# Altium footprint library Аналоговые-mm.PcbLib: 44 footprints (part 3 of 3)
Each footprint in its own frame and in the unit in brackets; x right, y up, seen from the top. Pads: shape width x height; smd on the part's side, far side on the other; paste and mask are expansions set on the pad; w line width, h text height; cw(c..) or ccw(c..) is an arc to the next point about the centre after c.
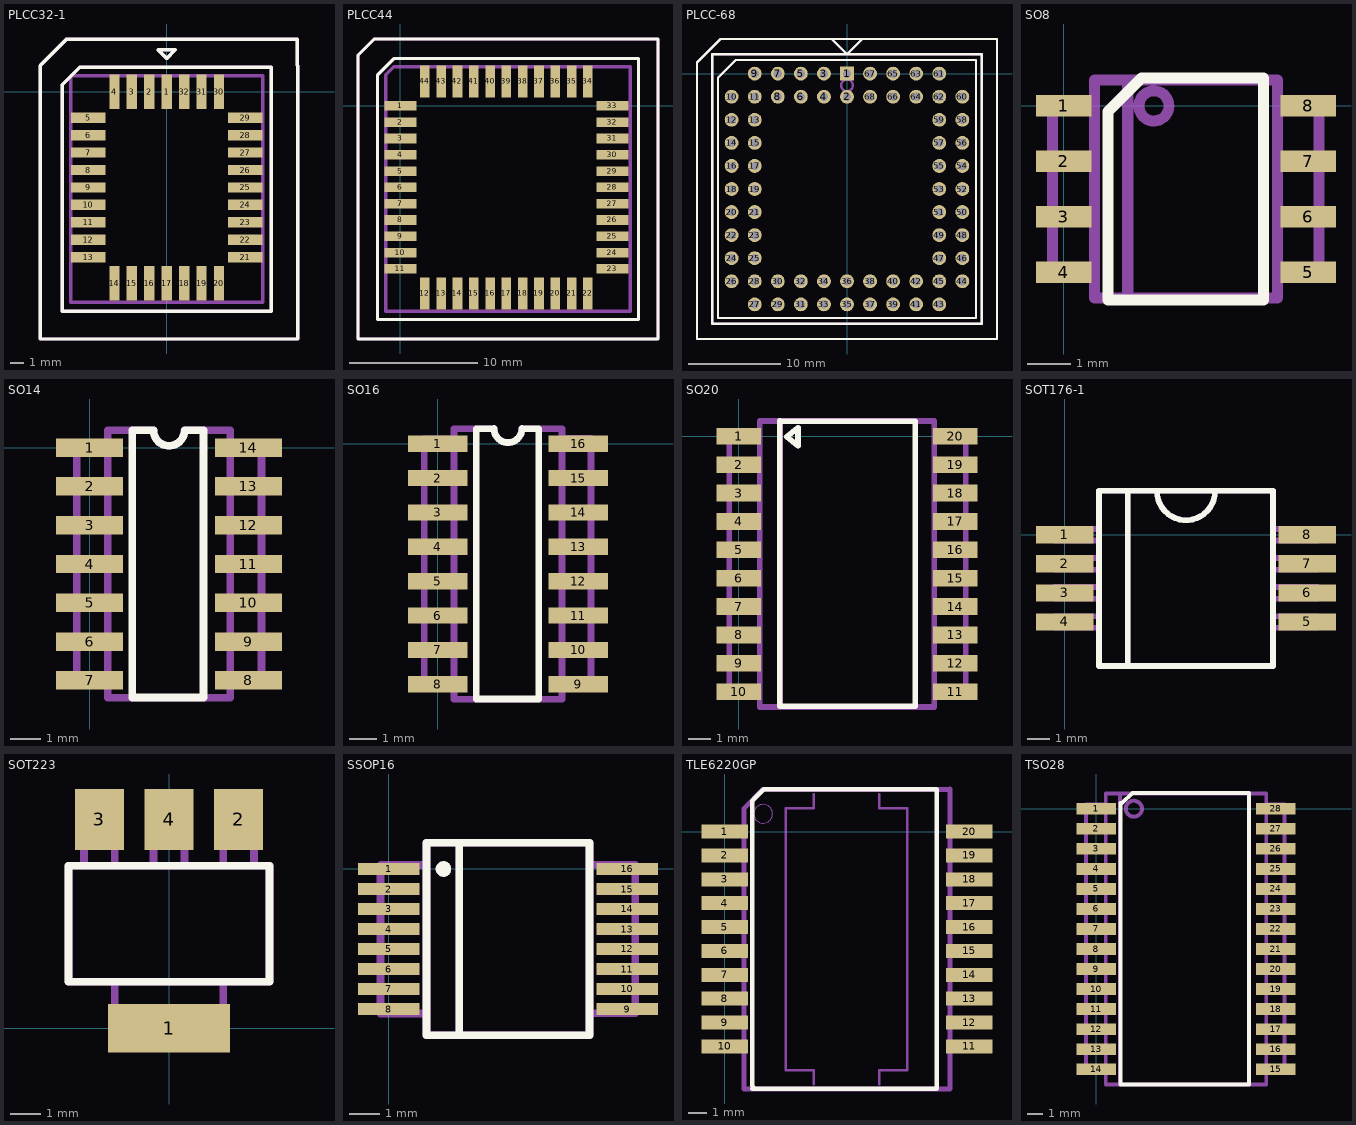
[diagram p2: the footprints below, top view; thin cyan lines are the x and y axes]

## PLCC32-1 [mm]
pads (32):
  rect 0.75x2.5 smd: 1(0,0) 2(-1.27,0) 3(-2.54,0) 4(-3.81,0) 14(-3.81,-13.97) 15(-2.54,-13.97) 16(-1.27,-13.97) 17(0,-13.97) 18(1.27,-13.97) 19(2.54,-13.97) 20(3.81,-13.97) 30(3.81,0) 31(2.54,0) 32(1.27,0)
  rect 2.5x0.75 smd: 5(-5.715,-1.905) 6(-5.715,-3.175) 7(-5.715,-4.445) 8(-5.715,-5.715) 9(-5.715,-6.985) 10(-5.715,-8.255) 11(-5.715,-9.525) 12(-5.715,-10.795) 13(-5.715,-12.065) 21(5.715,-12.065) 22(5.715,-10.795) 23(5.715,-9.525) 24(5.715,-8.255) 25(5.715,-6.985) 26(5.715,-5.715) 27(5.715,-4.445) 28(5.715,-3.175) 29(5.715,-1.905)
Top Overlay:
  lines w0.25: -9.22,-16.129 -9.22,-18.034 -7.01,-18.034 ; -9.22,1.905 -7.29,3.835 ; -9.207,-16.129 -9.207,1.905 ; -7.302,-18.034 7.302,-18.034 ; -7.302,3.81 7.302,3.81 ; 7.239,3.81 9.525,3.81 9.525,1.905 ; 7.29,-18.034 9.55,-18.034 9.55,-16.053 ; 9.538,-16.154 9.538,1.88 ; -7.62,-16.002 7.62,-16.002 7.62,1.778 -6.35,1.778 -7.62,0.508 -7.62,-16.002 ; -0.635,3.048 0.635,3.048 0,2.413 -0.635,3.048
Mechanical 1:
  lines w0.25: -9.22,-16.129 -9.22,-18.034 -7.01,-18.034 ; -9.22,1.905 -7.29,3.835 ; -9.207,-16.129 -9.207,1.905 ; -7.302,-18.034 7.302,-18.034 ; -7.302,3.81 7.302,3.81 ; 7.239,3.81 9.525,3.81 9.525,1.905 ; 7.29,-18.034 9.55,-18.034 9.55,-16.053 ; 9.538,-16.154 9.538,1.88 ; -7.62,-16.002 7.62,-16.002 7.62,1.778 -6.35,1.778 -7.62,0.508 -7.62,-16.002 ; -6.985,-15.367 6.985,-15.367 6.985,1.143 -6.985,1.143 -6.985,-15.367 ; -0.635,3.048 0.635,3.048 0,2.413 -0.635,3.048

## PLCC44 [mm]
pads (44):
  rect 2.5x0.75 smd: 1(0,0) 2(0,-1.27) 3(0,-2.54) 4(0,-3.81) 5(0,-5.08) 6(0,-6.35) 7(0,-7.62) 8(0,-8.89) 9(0,-10.16) 10(0,-11.43) 11(0,-12.7) 23(16.51,-12.7) 24(16.51,-11.43) 25(16.51,-10.16) 26(16.51,-8.89) 27(16.51,-7.62) 28(16.51,-6.35) 29(16.51,-5.08) 30(16.51,-3.81) 31(16.51,-2.54) 32(16.51,-1.27) 33(16.51,0)
  rect 0.75x2.5 smd: 12(1.905,-14.605) 13(3.175,-14.605) 14(4.445,-14.605) 15(5.715,-14.605) 16(6.985,-14.605) 17(8.255,-14.605) 18(9.525,-14.605) 19(10.795,-14.605) 20(12.065,-14.605) 21(13.335,-14.605) 22(14.605,-14.605) 34(14.605,1.905) 35(13.335,1.905) 36(12.065,1.905) 37(10.795,1.905) 38(9.525,1.905) 39(8.255,1.905) 40(6.985,1.905) 41(5.715,1.905) 42(4.445,1.905) 43(3.175,1.905) 44(1.905,1.905)
Top Overlay:
  lines w0.25: -3.302,-18.161 20.066,-18.161 20.066,5.207 -2.032,5.207 -3.302,3.937 -3.302,-18.161 ; -1.778,-16.637 18.542,-16.637 18.542,3.683 -0.508,3.683 -1.778,2.413 -1.778,-16.637
Mechanical 1:
  lines w0.25: -3.302,-18.161 20.066,-18.161 20.066,5.207 -2.032,5.207 -3.302,3.937 -3.302,-18.161 ; -1.778,-16.637 18.542,-16.637 18.542,3.683 -0.508,3.683 -1.778,2.413 -1.778,-16.637 ; -1.143,-16.002 17.907,-16.002 17.907,3.048 -0.508,3.048 -1.143,2.413 -1.143,-16.002

## PLCC-68 [mm]
pads (68):
  rect 1.5x1.5 hole 0.9: 1(0,0)
  round 1.5 hole 0.9: 2(0,-2.5) 3(-2.5,0) 4(-2.5,-2.5) 5(-5,0) 6(-5,-2.5) 7(-7.5,0) 8(-7.5,-2.5) 9(-10,0) 10(-12.5,-2.5) 11(-10,-2.5) 12(-12.5,-5) 13(-10,-5) 14(-12.5,-7.5) 15(-10,-7.5) 16(-12.5,-10) 17(-10,-10) 18(-12.5,-12.5) 19(-10,-12.5) 20(-12.5,-15) 21(-10,-15) 22(-12.5,-17.5) 23(-10,-17.5) 24(-12.5,-20) 25(-10,-20) 26(-12.5,-22.5) 27(-10,-25) 28(-10,-22.5) 29(-7.5,-25) 30(-7.5,-22.5) 31(-5,-25) 32(-5,-22.5) 33(-2.5,-25) 34(-2.5,-22.5) 35(0,-25) 36(0,-22.5) 37(2.5,-25) 38(2.5,-22.5) 39(5,-25) 40(5,-22.5) 41(7.5,-25) 42(7.5,-22.5) 43(10,-25) 44(12.5,-22.5) 45(10,-22.5) 46(12.5,-20) 47(10,-20) 48(12.5,-17.5) 49(10,-17.5) 50(12.5,-15) 51(10,-15) 52(12.5,-12.5) 53(10,-12.5) 54(12.5,-10) 55(10,-10) 56(12.5,-7.5) 57(10,-7.5) 58(12.5,-5) 59(10,-5) 60(12.5,-2.5) 61(10,0) 62(10,-2.5) 63(7.5,0) 64(7.5,-2.5) 65(5,0) 66(5,-2.5) 67(2.5,0) 68(2.5,-2.5)
Top Overlay:
  lines w0.25: -1.651,3.756 0,2.105 1.651,3.756 ; -16.256,-28.756 -2.032,-28.756 16.256,-28.756 16.256,3.756 -13.716,3.756 -16.256,1.216 -16.256,-28.756 ; -14.605,-27.105 14.605,-27.105 14.605,2.105 -14.605,2.105 -14.605,-27.105 ; -13.97,-26.47 13.97,-26.47 13.97,1.47 -12.065,1.47 -13.97,-0.435 -13.97,-26.47
Mechanical 1:
  circle w0.25: c0,-1.27 r0.635
  lines w0.25: -1.651,3.756 0,2.105 1.651,3.756 ; -16.256,-28.756 -2.032,-28.756 16.256,-28.756 16.256,3.756 -13.716,3.756 -16.256,1.216 -16.256,-28.756 ; -14.605,-27.105 14.605,-27.105 14.605,2.105 -14.605,2.105 -14.605,-27.105 ; -13.97,-26.47 13.97,-26.47 13.97,1.47 -12.065,1.47 -13.97,-0.435 -13.97,-26.47

## SO8 [mm]
pads (8):
  rect 1.27x0.5 smd: 1(0,0) 2(0,-1.27) 3(0,-2.54) 4(0,-3.81) 5(5.6,-3.81) 6(5.6,-2.54) 7(5.6,-1.27) 8(5.6,0)
Top Overlay:
  lines w0.25: 1.016,-4.445 4.572,-4.445 4.572,0.635 1.778,0.635 1.016,-0.127 1.016,-4.445
Mechanical 1:
  circle w0.25: c2.065,-0.003 r0.344
  circle w0.25: c2.065,-0.003 r0.344
  lines w0.25: 0.635,-3.937 -0.254,-3.937 -0.254,0.127 -0.127,0.127 0.635,0.127 ; 4.953,-3.937 5.842,-3.937 5.842,0.127 4.953,0.127
  lines w0.254: 0.7,-4.405 4.9,-4.405 ; 0.7,-4.405 4.9,-4.405 ; 0.7,-4.405 0.7,0.595 ; 0.7,-4.405 0.7,0.595 ; 0.7,0.595 2.292,0.595 0.7,0.595 ; 4.9,-4.405 4.9,0.595 ; 4.9,-4.405 4.9,0.595 ; 4.9,0.595 2.189,0.596 4.9,0.595 ; 1.466,-4.407 1.466,0.572 1.466,-4.407

## SO14 [mm]
pads (14):
  rect 2.2x0.6 smd: 1(0,0) 2(0,-1.27) 3(0,-2.54) 4(0,-3.81) 5(0,-5.08) 6(0,-6.35) 7(0,-7.62) 8(5.2,-7.62) 9(5.2,-6.35) 10(5.2,-5.08) 11(5.2,-3.81) 12(5.2,-2.54) 13(5.2,-1.27) 14(5.2,0)
Top Overlay:
  lines w0.25: 1.395,-8.18 3.73,-8.18 3.73,0.565 3.11,0.565 cw(c2.602,0.565) 2.095,0.565 1.395,0.565 1.395,0.52 1.395,-8.18
Mechanical 1:
  lines w0.25: 0.595,-7.755 -0.425,-7.755 -0.425,0.11 -0.425,0.135 0.595,0.135 ; 4.61,-7.745 5.63,-7.745 5.63,0.12 5.63,0.145 4.61,0.145 ; 0.6,-8.185 4.6,-8.185 4.6,0.565 3.108,0.565 cw(c2.6,0.565) 2.092,0.565 0.6,0.565 0.6,-8.185

## SO16 [mm]
pads (16):
  rect 2.2x0.6 smd: 1(0,0) 2(0,-1.27) 3(0,-2.54) 4(0,-3.81) 5(0,-5.08) 6(0,-6.35) 7(0,-7.62) 8(0,-8.89) 9(5.2,-8.89) 10(5.2,-7.62) 11(5.2,-6.35) 12(5.2,-5.08) 13(5.2,-3.81) 14(5.2,-2.54) 15(5.2,-1.27) 16(5.2,0)
Top Overlay:
  lines w0.25: 2.075,0.555 1.43,0.555 1.43,0.515 1.43,-9.44 3.74,-9.44 3.74,0.555 3.12,0.555 ; 2.08,0.56 ccw(c2.598,0.56) 3.115,0.56
Mechanical 1:
  lines w0.25: 0.575,-8.97 -0.495,-8.97 -0.495,0.135 -0.495,0.185 0.575,0.185 ; 4.595,-8.96 5.665,-8.96 5.665,0.145 5.665,0.195 4.595,0.195 ; 0.6,-9.445 4.6,-9.445 4.6,0.555 3.108,0.555 cw(c2.6,0.555) 2.092,0.555 0.6,0.555 0.6,-9.445

## SO20 [mm]
pads (20):
  rect 2x0.75 smd: 1(0,0) 2(0,-1.27) 3(0,-2.54) 4(0,-3.81) 5(0,-5.08) 6(0,-6.35) 7(0,-7.62) 8(0,-8.89) 9(0,-10.16) 10(0,-11.43) 11(9.7,-11.43) 12(9.7,-10.16) 13(9.7,-8.89) 14(9.7,-7.62) 15(9.7,-6.35) 16(9.7,-5.08) 17(9.7,-3.81) 18(9.7,-2.54) 19(9.7,-1.27) 20(9.7,0)
Top Overlay:
  lines w0.25: 1.845,0.67 7.9,0.67 7.9,-12.09 1.845,-12.09 1.845,0.69 ; 2.155,-0.015 2.655,-0.42 2.655,0.385 2.155,-0.015
Mechanical 1:
  lines w0.25: 0.93,-11.625 -0.415,-11.625 -0.415,-0.225 -0.415,0.25 0.945,0.25 ; 1.85,-12.015 1.85,0.685 ; 8.805,0.22 10.165,0.22 10.165,-0.255 10.165,-11.655 8.82,-11.655 ; 0.95,-12.115 8.75,-12.115 8.75,0.685 0.95,0.685 0.95,-12.115 ; 2.16,-0.015 2.66,-0.415 2.66,0.385 2.16,-0.015

## SOT176-1 [mm]
pads (8):
  rect 2.5x0.75 smd: 1(0,0) 2(0,-1.27) 3(0,-2.54) 4(0,-3.81) 5(10.6,-3.81) 6(10.6,-2.54) 7(10.6,-1.27) 8(10.6,0)
Top Overlay:
  lines w0.25: 2.76,-5.715 2.76,1.778 ; 4.03,1.905 ccw(c5.3,1.905) 6.57,1.905 ; 1.5,-5.73 9.1,-5.73 9.1,1.92 1.5,1.92 1.5,-5.73
Mechanical 1:
  lines w0.25: 1.46,-4.064 -0.445,-4.064 -0.445,-3.556 1.46,-3.556 ; 1.46,-2.794 -0.445,-2.794 -0.445,-2.286 1.46,-2.286 ; 1.46,-1.524 -0.445,-1.524 -0.445,-1.016 1.46,-1.016 ; 1.46,-0.254 -0.445,-0.254 -0.445,0.254 1.46,0.254 ; 9.144,-4.064 11.049,-4.064 11.049,-3.556 9.144,-3.556 ; 9.144,-2.794 11.049,-2.794 11.049,-2.286 9.144,-2.286 ; 9.144,-1.524 11.049,-1.524 11.049,-1.016 9.144,-1.016 ; 9.144,-0.254 11.049,-0.254 11.049,0.254 9.144,0.254 ; 1.5,-5.73 9.1,-5.73 ; 1.5,-5.73 9.1,-5.73 ; 1.5,-5.73 9.1,-5.73 ; 1.5,-5.73 1.5,1.92 ; 1.5,-5.73 1.5,1.92 ; 1.5,-5.73 1.5,1.92 ; 1.5,1.92 9.1,1.92 ; 1.5,1.92 9.1,1.92 ; 1.5,1.92 9.1,1.92 ; 2.76,-5.715 2.76,1.778 ; 2.76,-5.715 2.76,1.778 ; 2.76,-5.715 2.76,1.778 ; 4.03,1.905 ccw(c5.3,1.905) 6.57,1.905 ; 4.03,1.905 ccw(c5.3,1.905) 6.57,1.905 ; 4.03,1.905 ccw(c5.3,1.905) 6.57,1.905 ; 9.1,-5.73 9.1,1.92 ; 9.1,-5.73 9.1,1.92 ; 9.1,-5.73 9.1,1.92

## SOT223 [mm]
pads (4):
  rect 4x1.6 smd: 1(0,0)
  rect 1.6x2 smd: 2(2.286,6.858) 3(-2.286,6.858) 4(0,6.858)
Top Overlay:
  lines w0.25: -3.302,1.524 3.302,1.524 3.302,2.286 3.302,3.302 3.302,4.572 3.302,5.334 -3.302,5.334 -3.302,1.524
Mechanical 1:
  lines w0.25: -2.794,5.334 -2.794,6.096 -2.794,7.366 -1.778,7.366 -1.778,6.096 -1.778,5.334 ; -1.778,1.524 -1.778,0.762 -1.778,-0.254 1.778,-0.254 1.778,0.762 1.778,1.524 ; -0.508,5.334 -0.508,6.096 -0.508,7.366 0.508,7.366 0.508,6.096 0.508,5.334 ; 1.778,5.334 1.778,5.588 1.778,6.096 1.778,7.366 2.794,7.366 2.794,6.096 2.794,5.334 ; -3.302,1.524 3.302,1.524 3.302,2.286 3.302,3.302 3.302,4.572 3.302,5.334 -3.302,5.334 -3.302,1.524

## SSOP16 [mm]
pads (16):
  rect 2x0.4 smd: 1(0,0) 2(0,-0.65) 3(0,-1.3) 4(0,-1.95) 5(0,-2.6) 6(0,-3.25) 7(0,-3.9) 8(0,-4.55) 9(7.75,-4.55) 10(7.75,-3.9) 11(7.75,-3.25) 12(7.75,-2.6) 13(7.75,-1.95) 14(7.75,-1.3) 15(7.75,-0.65) 16(7.75,0)
Top Overlay:
  circle w0.25: c1.778,0 r0.127
  lines w0.25: 2.286,-5.334 2.286,0.762 ; 4.637,0.85 6.525,0.85 6.525,-5.4 1.225,-5.4 1.225,0.85 4.656,0.851
Mechanical 1:
  circle w0.25: c1.778,0 r0.127
  lines w0.25: -0.267,0.114 -0.267,-4.699 1.206,-4.699 ; -0.254,0.127 1.156,0.127 ; 2.286,-5.334 2.286,0.762 ; 4.637,0.85 6.525,0.85 6.525,-5.4 1.225,-5.4 1.225,0.85 4.656,0.851 ; 6.54,-4.686 8.014,-4.686 8.014,0.127 8.001,0.14 6.591,0.14 6.566,0.165

## TLE6220GP [mil]
pads (20):
  rect 100x30 smd: 1(0,0) 2(0,-51) 3(0,-102) 4(0,-153) 5(0,-204) 6(0,-255) 7(0,-306) 8(0,-357) 9(0,-408) 10(0,-459) 11(522,-459) 12(522,-408) 13(522,-357) 14(522,-306) 15(522,-255) 16(522,-204) 17(522,-153) 18(522,-102) 19(522,-51) 20(522,0)
Top Overlay:
  lines w9.84: 58.86,-549.41 63.78,-549.41 ; 63.78,-549.41 452.56,-549.41 452.56,90.35 83.46,90.35 58.86,65.75 58.86,-544.49 63.78,-549.41
Mechanical 1:
  circle w1: c82,38 r20
  lines w5: 190,-540 190,-510 130,-510 130,50 150,50 190,50 190,80 ; 330,-540 330,-510 390,-510 390,50 370,50 330,50 330,80
  lines w10: 16,-468 16,-450 ; 16,-417 16,-399 ; 16,-366 16,-348 ; 16,-315 16,-297 ; 16,-264 16,-246 ; 16,-213 16,-195 ; 16,-162 16,-144 ; 16,-111 16,-93 ; 16,-60 16,-42 ; 16,-9 16,9 ; 41,-468 -23,-468 -23,-450 41,-450 ; 41,-417 -23,-417 -23,-399 41,-399 ; 41,-366 -23,-366 -23,-348 41,-348 ; 41,-315 -23,-315 -23,-297 41,-297 ; 41,-264 -23,-264 -23,-246 41,-246 ; 41,-213 -23,-213 -23,-195 41,-195 ; 41,-162 -23,-162 -23,-144 41,-144 ; 41,-111 -23,-111 -23,-93 41,-93 ; 41,-60 -23,-60 -23,-42 41,-42 ; 41,-9 -23,-9 -23,9 41,9 ; 480,90 81,90 41,50 41,40 41,-550 481,-550 481,91 ; 481,-468 545,-468 545,-450 481,-450 ; 481,-417 545,-417 545,-399 481,-399 ; 481,-366 545,-366 545,-348 481,-348 ; 481,-315 545,-315 545,-297 481,-297 ; 481,-264 545,-264 545,-246 481,-246 ; 481,-213 545,-213 545,-195 481,-195 ; 481,-162 545,-162 545,-144 481,-144 ; 481,-111 545,-111 545,-93 481,-93 ; 481,-60 545,-60 545,-42 481,-42 ; 481,-9 545,-9 545,9 481,9 ; 506,-468 506,-450 ; 506,-417 506,-399 ; 506,-366 506,-348 ; 506,-315 506,-297 ; 506,-264 506,-246 ; 506,-213 506,-195 ; 506,-162 506,-144 ; 506,-111 506,-93 ; 506,-60 506,-42 ; 506,-9 506,9

## TSO28 [mm]
pads (28):
  rect 2.5x0.75 smd: 1(0,0) 2(0,-1.27) 3(0,-2.54) 4(0,-3.81) 5(0,-5.08) 6(0,-6.35) 7(0,-7.62) 8(0,-8.89) 9(0,-10.16) 10(0,-11.43) 11(0,-12.7) 12(0,-13.97) 13(0,-15.24) 14(0,-16.51) 15(11.4,-16.51) 16(11.4,-15.24) 17(11.4,-13.97) 18(11.4,-12.7) 19(11.4,-11.43) 20(11.4,-10.16) 21(11.4,-8.89) 22(11.4,-7.62) 23(11.4,-6.35) 24(11.4,-5.08) 25(11.4,-3.81) 26(11.4,-2.54) 27(11.4,-1.27) 28(11.4,0)
Top Overlay:
  lines w0.25: 1.56,-17.465 1.56,0.35 1.655,0.35 2.3,0.995 7.285,0.995 9.705,0.995 9.705,0.84 9.705,-17.465 1.59,-17.465
Mechanical 1:
  circle w0.25: c2.398,0 r0.508
  lines w0.25: 0.508,-16.637 -0.635,-16.637 -0.635,0.254 0.508,0.254 ; 1.509,-17.399 1.509,0.889 ; 10.795,-16.637 11.938,-16.637 11.938,0.254 10.795,0.254 ; 0.615,-17.462 10.785,-17.462 10.785,0.953 0.615,0.953 0.615,-17.462